# EAGLE library part PIOCONN (library pixel)
CONNECTOR 68-pin 1.27mm (.050 inch) pitch SCSI+ unshielded receptacle right angle all plastic
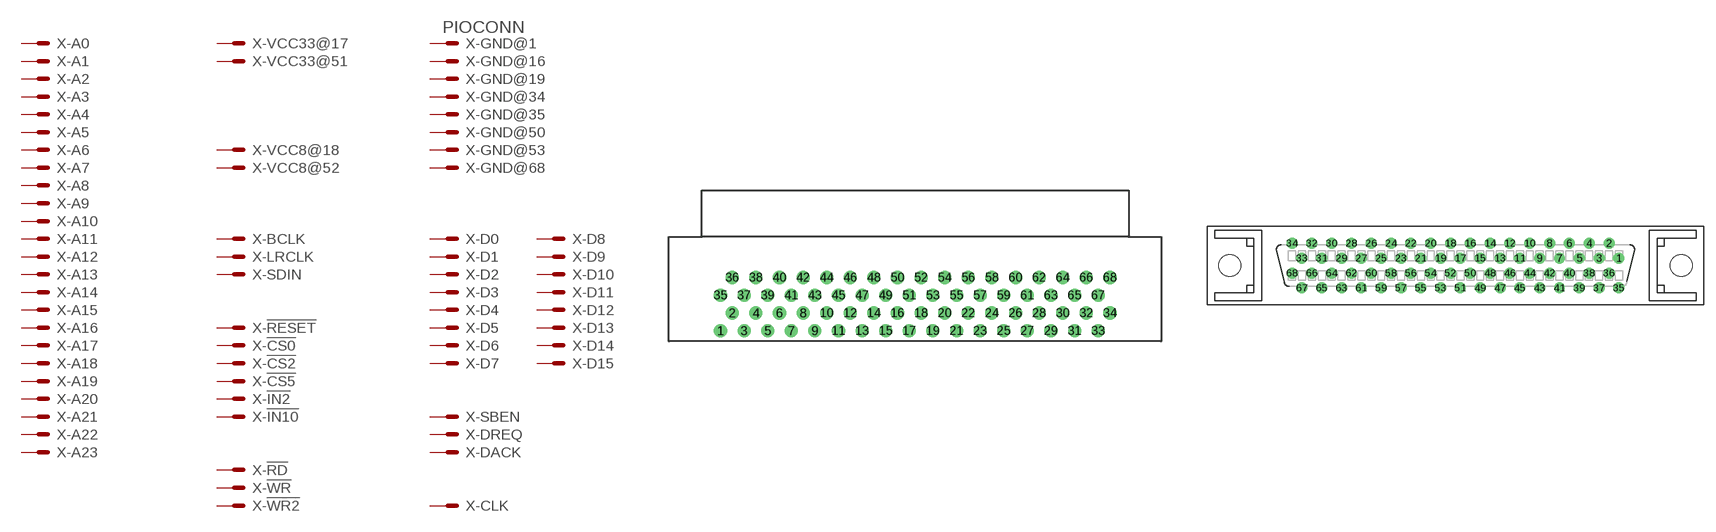
[diagram p16: symbol with the pads of PIOCONN-R; footprints PIOCONN-R, PIOCONN]

Designator prefix X; gates -GND@1=MV -!RESET=M -DREQ=M -!CS0=M -SBEN=M -D0=M -D2=M -D4=M -D6=M -D8=M -D10=M -D12=M -D14=M -A0=M -A2=M -GND@16=M -VCC33@17=M -VCC8@18=M -GND@19=M -A4=M -A6=M -A8=M -A10=M -A12=M -A14=M -A16=M -A18=M -A20=M -A22=M -!RD=M -!IN2=M -CLK=M -BCLK=M -GND@34=M -GND@35=M -DACK=M -!IN10=M -!WR2=M -!CS2=M -D1=M -D3=M -D5=M -D7=M -D9=M -D11=M -D13=M -D15=M -A1=M -A3=M -GND@50=M -VCC33@51=M -VCC8@52=M -GND@53=M -A5=M -A7=M -A9=M -A11=M -A13=M -A15=M -A17=M -A19=M -A21=M -A23=M -!WR=M -!CS5=M -LRCLK=M -SDIN=M -GND@68=M

## PIOCONNPIOCONN-R (MF: MOLEX; OC_FARNELL: unknown; OC_NEWARK: unknown)  [PIOCONN-R]
1  -GND@1:S  pas
2  -!RESET:S  pas
3  -DREQ:S  pas
4  -!CS0:S  pas
5  -SBEN:S  pas
6  -D0:S  pas
7  -D2:S  pas
8  -D4:S  pas
9  -D6:S  pas
10  -D8:S  pas
11  -D10:S  pas
12  -D12:S  pas
13  -D14:S  pas
14  -A0:S  pas
15  -A2:S  pas
16  -GND@16:S  pas
17  -VCC33@17:S  pas
18  -VCC8@18:S  pas
19  -GND@19:S  pas
20  -A4:S  pas
21  -A6:S  pas
22  -A8:S  pas
23  -A10:S  pas
24  -A12:S  pas
25  -A14:S  pas
26  -A16:S  pas
27  -A18:S  pas
28  -A20:S  pas
29  -A22:S  pas
30  -!RD:S  pas
31  -!IN2:S  pas
32  -CLK:S  pas
33  -BCLK:S  pas
34  -GND@34:S  pas
35  -GND@35:S  pas
36  -DACK:S  pas
37  -!IN10:S  pas
38  -!WR2:S  pas
39  -!CS2:S  pas
40  -D1:S  pas
41  -D3:S  pas
42  -D5:S  pas
43  -D7:S  pas
44  -D9:S  pas
45  -D11:S  pas
46  -D13:S  pas
47  -D15:S  pas
48  -A1:S  pas
49  -A3:S  pas
50  -GND@50:S  pas
51  -VCC33@51:S  pas
52  -VCC8@52:S  pas
53  -GND@53:S  pas
54  -A5:S  pas
55  -A7:S  pas
56  -A9:S  pas
57  -A11:S  pas
58  -A13:S  pas
59  -A15:S  pas
60  -A17:S  pas
61  -A19:S  pas
62  -A21:S  pas
63  -A23:S  pas
64  -!WR:S  pas
65  -!CS5:S  pas
66  -LRCLK:S  pas
67  -SDIN:S  pas
68  -GND@68:S  pas

## PIOCONNPIOCONN-S  [PIOCONN]
Pads as for PIOCONN-R

## Footprint PIOCONN-R (pad centres in mm)
drill 0.9 pad 1.27: 1 -20.955,-5.73; 2 -19.685,-3.82; 3 -18.415,-5.73; 4 -17.145,-3.82; 5 -15.875,-5.73; 6 -14.605,-3.82; 7 -13.335,-5.73; 8 -12.065,-3.82; 9 -10.795,-5.73; 10 -9.525,-3.82; 11 -8.255,-5.73; 12 -6.985,-3.82; 13 -5.715,-5.73; 14 -4.445,-3.82; 15 -3.175,-5.73; 16 -1.905,-3.82; 17 -0.635,-5.73; 18 0.635,-3.82; 19 1.905,-5.73; 20 3.175,-3.82; 21 4.445,-5.73; 22 5.715,-3.82; 23 6.985,-5.73; 24 8.255,-3.82; 25 9.525,-5.73; 26 10.795,-3.82; 27 12.065,-5.73; 28 13.335,-3.82; 29 14.605,-5.73; 30 15.875,-3.82; 31 17.145,-5.73; 32 18.415,-3.82; 33 19.685,-5.73; 34 20.955,-3.82; 35 -20.955,-1.91; 36 -19.685,0; 37 -18.415,-1.91; 38 -17.145,0; 39 -15.875,-1.91; 40 -14.605,0; 41 -13.335,-1.91; 42 -12.065,0; 43 -10.795,-1.91; 44 -9.525,0; 45 -8.255,-1.91; 46 -6.985,0; 47 -5.715,-1.91; 48 -4.445,0; 49 -3.175,-1.91; 50 -1.905,0; 51 -0.635,-1.91; 52 0.635,0; 53 1.905,-1.91; 54 3.175,0; 55 4.445,-1.91; 56 5.715,0; 57 6.985,-1.91; 58 8.255,0; 59 9.525,-1.91; 60 10.795,0; 61 12.065,-1.91; 62 13.335,0; 63 14.605,-1.91; 64 15.875,0; 65 17.145,-1.91; 66 18.415,0; 67 19.685,-1.91; 68 20.955,0

## Footprint PIOCONN (pad centres in mm)
TE CONNECTIVITY / AMP - BUCHSE, SCSI, VERTIKAL, 68 Source: Data sheet <http://www.tycoelectronics.com/commerce/DocumentDelivery/DDEController?Action=srchrtrv&DocNm=5749069&DocType=Customer+Drawing&DocLang=English>
drill 0.9 pad 1.27: 1 20.955,0.953; 2 19.685,2.863; 3 18.415,0.953; 4 17.145,2.863; 5 15.875,0.953; 6 14.605,2.863; 7 13.335,0.953; 8 12.065,2.863; 9 10.795,0.953; 10 9.525,2.863; 11 8.255,0.953; 12 6.985,2.863; 13 5.715,0.953; 14 4.445,2.863; 15 3.175,0.953; 16 1.905,2.863; 17 0.635,0.953; 18 -0.635,2.863; 19 -1.905,0.953; 20 -3.175,2.863; 21 -4.445,0.953; 22 -5.715,2.863; 23 -6.985,0.953; 24 -8.255,2.863; 25 -9.525,0.953; 26 -10.795,2.863; 27 -12.065,0.953; 28 -13.335,2.863; 29 -14.605,0.953; 30 -15.875,2.863; 31 -17.145,0.953; 32 -18.415,2.863; 33 -19.685,0.953; 34 -20.955,2.863; 35 20.955,-2.867; 36 19.685,-0.957; 37 18.415,-2.867; 38 17.145,-0.957; 39 15.875,-2.867; 40 14.605,-0.957; 41 13.335,-2.867; 42 12.065,-0.957; 43 10.795,-2.867; 44 9.525,-0.957; 45 8.255,-2.867; 46 6.985,-0.957; 47 5.715,-2.867; 48 4.445,-0.957; 49 3.175,-2.867; 50 1.905,-0.957; 51 0.635,-2.867; 52 -0.635,-0.957; 53 -1.905,-2.867; 54 -3.175,-0.957; 55 -4.445,-2.867; 56 -5.715,-0.957; 57 -6.985,-2.867; 58 -8.255,-0.957; 59 -9.525,-2.867; 60 -10.795,-0.957; 61 -12.065,-2.867; 62 -13.335,-0.957; 63 -14.605,-2.867; 64 -15.875,-0.957; 65 -17.145,-2.867; 66 -18.415,-0.957; 67 -19.685,-2.867; 68 -20.955,-0.957
hole 2.8 at -28.955,0
hole 2.8 at 28.955,0